# Altium footprint library R0805-0.6MM.PcbLib: 1 footprints
Each footprint in its own frame and in the unit in brackets; x right, y up, seen from the top. Pads: shape width x height; smd on the part's side, far side on the other; paste and mask are expansions set on the pad; w line width, h text height; cw(c..) or ccw(c..) is an arc to the next point about the centre after c.
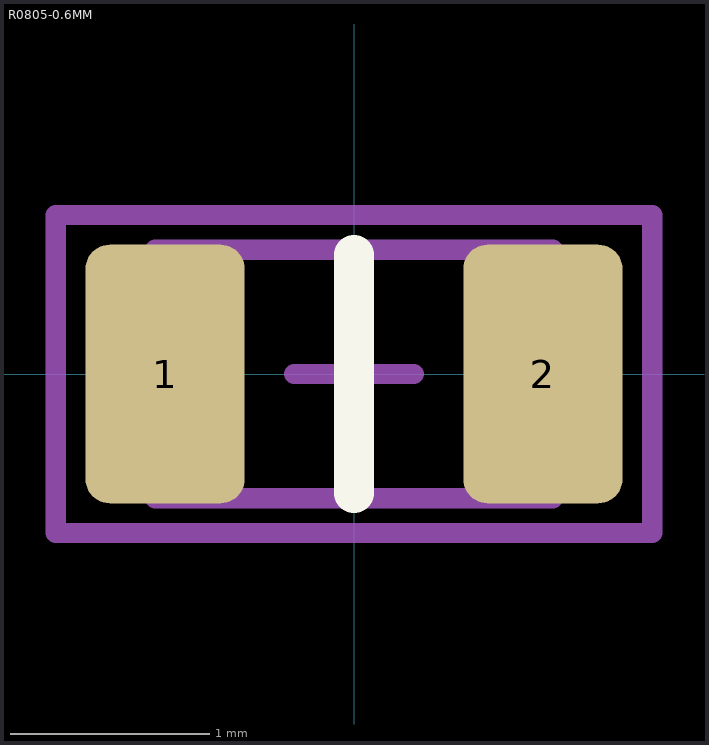
[diagram p0: the footprint, top view; thin cyan lines are the x and y axes]

## R0805-0.6MM [mm]
height 0.6
pads (2):
  rrect30% 0.8x1.3 smd: 1(-0.95,0) 2(0.95,0)
Top Overlay:
  lines w0.2: 0,-0.6 0,0.6
Mechanical 1:
  text ".Designator" at -0.9,-0.3 h1
Mechanical 13:
  lines w0.102: -1,-0.625 -1,0.625 1,0.625 1,-0.625 -1,-0.625
Mechanical 15:
  lines w0.102: -0.3,0 0.3,0 ; 0,-0.3 0,0.3 ; -1.5,-0.8 -1.5,0.8 1.5,0.8 1.5,-0.8 -1.5,-0.8
3D body: height 0.5, standoff 0, extent -1,-0.625 1,0.625